# EAGLE library part 1049 (library 1049)
KEYSTONE - 1049 - BATTERY HOLDER, 18650, THROUGH HOLE Source: Datasheet <http://www.keyelco.com/product.cfm/product_id/921>
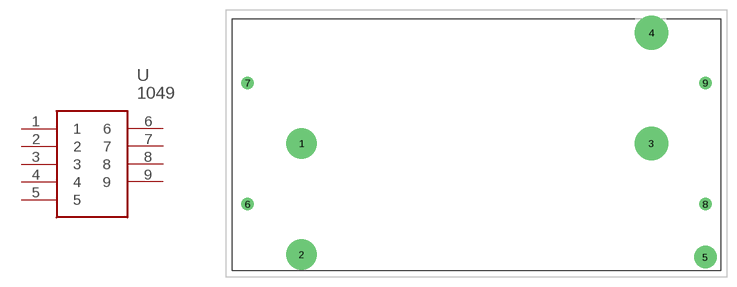
[diagram p0: symbol with the pads of 1049; footprint 1049]

Designator prefix U

## 1049 (Description: KEYSTONE - 1049 - BATTERY HOLDER, 18650, THROUGH HOLE; Height: 14mm; Manufacturer_Name: Keystone Electronics; Manufacturer_Part_Number: 1049; Mouser_Part_Number: 534-1049; Mouser_Price-Stock: https://www.mouser.co.uk/ProductDetail/Keystone-Electronics/1049?qs=%2F7TOpeL5Mz78b0pqEFIl5w%3D%3D)  [1049]
1  1
2  2
3  3
4  4
5  5
6  6
7  7
8  8
9  9

## Footprint 1049 (pad centres in mm)
1049
drill 3.18 pad 4.77: 1 -27.6,0.24; 2 -27.6,-17.29
drill 3.55 pad 5.325: 3 27.6,0.24; 4 27.6,17.71
drill 2.38 pad 3.57: 5 36.11,-17.71
drill 1.32 pad 1.98: 6 -36.11,-9.34; 7 -36.11,9.79; 8 36.11,-9.34; 9 36.11,9.79